# Altium schematic symbol library Transformers.SchLib: 1 symbol
Pins are listed as number, name and electrical type; pins without a type are passive.

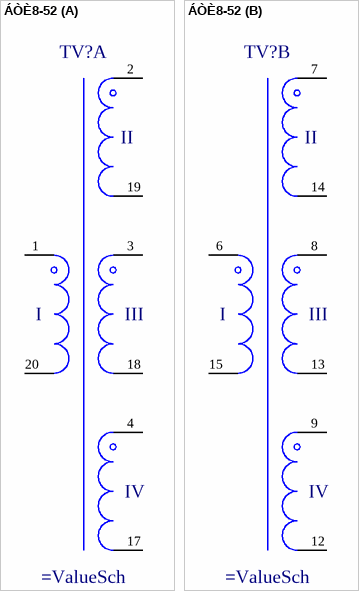
[diagram p0: symbol ÁÒÈ8-52]

## ÁÒÈ8-52
designator TV?
part A pins: 1, 2, 3, 4, 17, 18, 19, 20
part B pins: 6 1, 7 2, 8 3, 9 4, 12 17, 13 18, 14 19, 15 20
1 alternate drawing of the same symbol
part A text: II; I; III; IV
part B text: II; I; III; IV